# EAGLE library part 691386700018 (library WR-TBL Pluggable Connector)
WR-TBL Serie 386 - 5.00 mm Male PCB Header-Horizontal/Vertical Header Divisible KIND PROPERTIES Pitch 5 mm MATERIAL PROPERTIES Insulator Material PC Insulator Flammability Rating UL94 V-0 Contact Material Copper Alloy Contact Plating Tin over Nickel GENERAL INFORMATION Operating Temperature -30 up to +120 °C Compliance RoHS ELECTRICAL PROPERTIES IR UL 14 A IR VDE 16 A Working Voltage [UL] 300 V (AC) Working Voltage [VDE] 250 V (AC) Withstanding Voltage [cULus] 1600 V (AC) Withstanding Voltage [VDE] 2500 V (AC) Contact Resistance [cULus] 20 mΩ Contact Resistance [VDE] 20 mΩ CERTIFICATION cULus Approval E315414 VDE Approval 40023195 <https://www.we-online.com/catalog/media/o55398v209%20Family_WR-TBL_Serie_386_6913867000xx.jpg> Details see: https://www.we-online.com/catalog/en/TBL_5_00_386_HORIZONTAL_VERTICAL_HEADER_DIVISIBLE_MALE_PCB_HEADER_6913867000XX/ Updated by Ella Wu 2022-07-25 2022(C) Wurth Elektronik
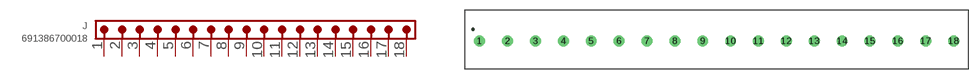
[diagram p202: symbol with the pads of 691386700018; footprint 691386700018]

Designator prefix J

## 691386700018 (DATASHEET-URL: https://www.we-online.com/redexpert/spec/691386700018?ae; IR-UL: 14A; IR-VDE: 16A; MOUNT: THT; PART-NUMBER: 691386700018; PINS: 18; PITCH: 5mm; TYPE: Horizontal/Vertical PCB Header; VALUE: 691386700018; WORKING-VOLTAGE-UL: 300V (AC); WORKING-VOLTAGE-VDE: 250V (AC))  [691386700018]
1  1  pas
2  2  pas
3  3  pas
4  4  pas
5  5  pas
6  6  pas
7  7  pas
8  8  pas
9  9  pas
10  10  pas
11  11  pas
12  12  pas
13  13  pas
14  14  pas
15  15  pas
16  16  pas
17  17  pas
18  18  pas

## Footprint 691386700018 (pad centres in mm)
WR-TBL Serie 386 - 5.00 mm Male PCB Header-Horizontal/Vertical Header Divisible Max Height = 10.9mm , Pitch 5mm , 18pins
drill 1.3: 1 -42.5,0; 2 -37.5,0; 3 -32.5,0; 4 -27.5,0; 5 -22.5,0; 6 -17.5,0; 7 -12.5,0; 8 -7.5,0; 9 -2.5,0; 10 2.5,0; 11 7.5,0; 12 12.5,0; 13 17.5,0; 14 22.5,0; 15 27.5,0; 16 32.5,0; 17 37.5,0; 18 42.5,0